# EAGLE library part DRV8833-BREAKOUT (library motorsanddriver)
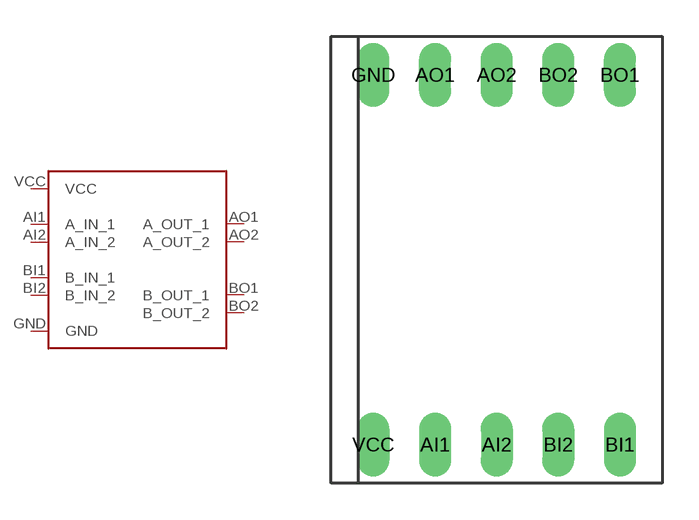
[diagram p0: symbol with the pads of DRV8833-BREAKOUT; footprint DRV8833-BREAKOUT]

Designator prefix -

## DRV8833-BREAKOUT  [DRV8833-BREAKOUT]
AI1  A_IN_1  in
AI2  A_IN_2  in
AO1  A_OUT_1  out
AO2  A_OUT_2  out
BI1  B_IN_1  in
BI2  B_IN_2  in
BO1  B_OUT_1  out
BO2  B_OUT_2  out
GND  GND  pwr
VCC  VCC  pwr

## Footprint DRV8833-BREAKOUT (pad centres in mm)
drill 0.8 long: AI1 -2.54,-7.62; AI2 0,-7.62; AO1 -2.54,7.62; AO2 0,7.62; BI1 5.08,-7.62; BI2 2.54,-7.62; BO1 5.08,7.62; BO2 2.54,7.62; GND -5.08,7.62; VCC -5.08,-7.62